# Altium footprint library ICL_design_adds_v1.PcbLib: 7 footprints
Each footprint in its own frame and in the unit in brackets; x right, y up, seen from the top. Pads: shape width x height; smd on the part's side, far side on the other; paste and mask are expansions set on the pad; w line width, h text height; cw(c..) or ccw(c..) is an arc to the next point about the centre after c.
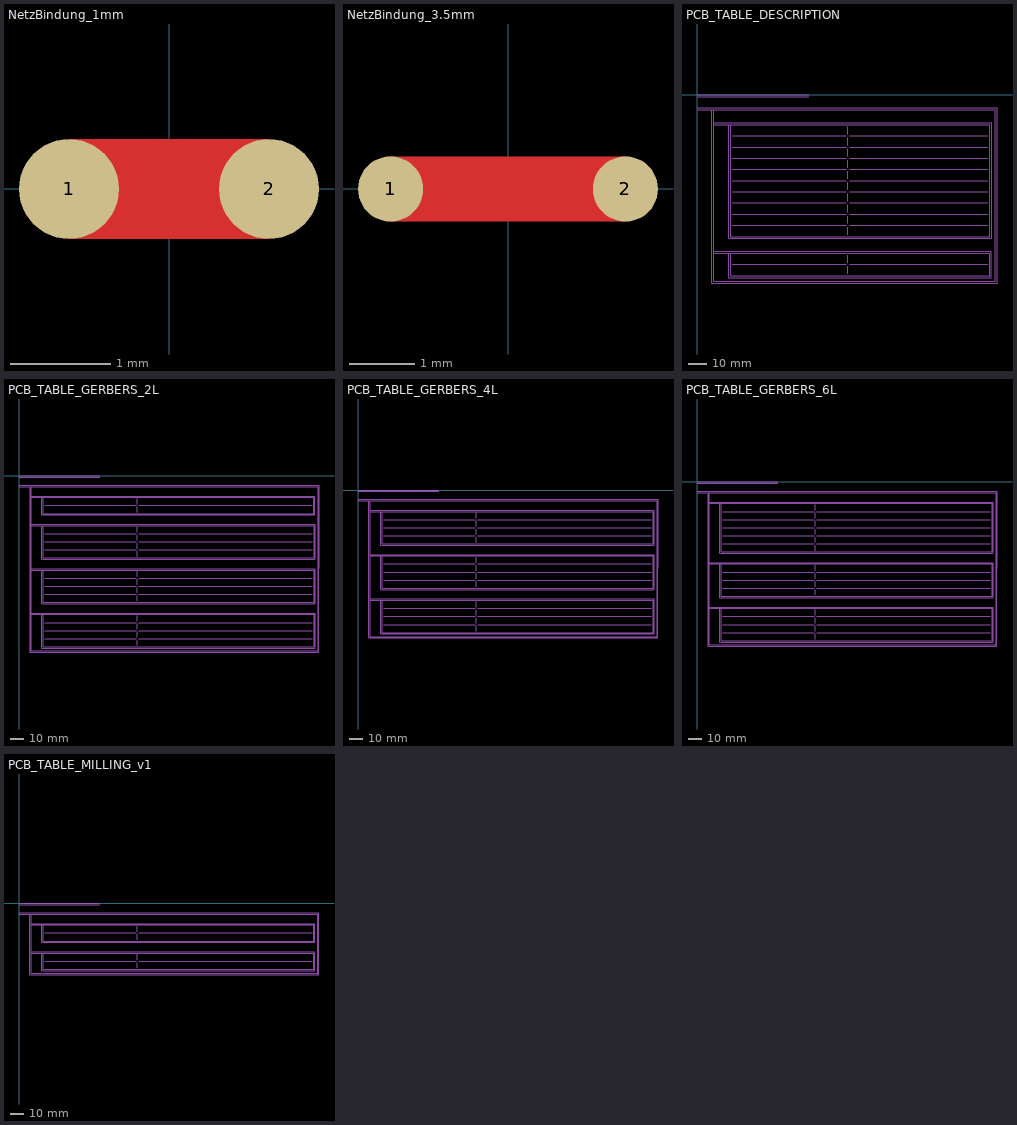
[diagram p0: the footprints below, top view; thin cyan lines are the x and y axes]

## NetzBindung_1mm [mm]
height -1
pads (2):
  round 1 smd paste-0.5 mask-0.5: 1(-1,0) 2(1,0)
Top Layer:
  rectangle: -1,-0.5 1,0.5

## NetzBindung_3.5mm [mm]
height -1
pads (2):
  round 1 smd paste-0.5 mask-0.5: 1(-1.8,0) 2(1.8,0)
Top Layer:
  rectangle: -1.8,-0.5 1.8,0.5

## PCB_TABLE_DESCRIPTION [mm] "General board description"
M30_PCBD:
  lines w0.4: 0,-8 160,-8 160,-97 160,-100 9,-100 9,-8 ; 0,-7 161,-7 161,-101 8,-101 8,-8 ; 0,-1 60,-1 ; 0,0 60,0 ; 9,-85 157,-85 157,-97 18,-97 18,-85 ; 9,-84 158,-84 158,-98 17,-98 17,-85 ; 9,-16 157,-16 157,-76 18,-76 18,-16 ; 9,-15 158,-15 158,-77 17,-77 17,-16 ; 19,-91 80,-91 ; 19,-70 80,-70 ; 19,-64 80,-64 ; 19,-58 80,-58 ; 19,-52 80,-52 ; 19,-46 80,-46 ; 19,-40 80,-40 ; 19,-34 80,-34 ; 19,-28 80,-28 ; 19,-22 80,-22 ; 81,-96 81,-92 ; 81,-90 81,-86 ; 81,-75 81,-71 ; 81,-69 81,-65 ; 81,-63 81,-59 ; 81,-57 81,-53 ; 81,-51 81,-47 ; 81,-45 81,-41 ; 81,-39 81,-35 ; 81,-33 81,-29 ; 81,-27 81,-23 ; 81,-21 81,-17 ; 82,-91 156,-91 ; 82,-70 156,-70 ; 82,-64 156,-64 ; 82,-58 156,-58 ; 82,-52 156,-52 ; 82,-46 156,-46 ; 82,-40 156,-40 ; 82,-34 156,-34 ; 82,-28 156,-28 ; 82,-22 156,-22
  text "Board Description:" at 1.6,-5.4 h3
  text "'.pcbSeparationMethod'" at 82.6,-74.4 h3
  text "Separation Method:" at 19.6,-74.4 h3
  text "'.pcbBottomSoldermask'" at 82.6,-68.4 h3
  text "'.pcbTopSoldermask'" at 82.6,-62.4 h3
  text "'.pcbBottomDescription'" at 82.6,-56.4 h3
  text "'.pcbTopDescription'" at 82.6,-50.4 h3
  text "'.pcbLayers'" at 82.6,-44.4 h3
  text "'.pcbCopperThickness'" at 82.6,-38.4 h3
  text "'.pcbThickness'" at 82.6,-32.4 h3
  text "'.pcbPrepregMaterial'" at 82.6,-26.4 h3
  text "'.pcbCoreMaterial'" at 82.6,-20.4 h3
  text "Bottom Soldermask" at 19.6,-68.4 h3
  text "Top Soldermask" at 19.6,-62.4 h3
  text "Bottom Description:" at 19.6,-56.4 h3
  text "Top Description:" at 19.6,-50.4 h3
  text "Copper Thickness:" at 19.6,-38.4 h3
  text "Pre-preg material:" at 19.6,-26.4 h3
  text "Board Thickness:" at 19.6,-32.4 h3
  text "Layers Number:" at 19.6,-44.4 h3
  text "General:" at 11.6,-13.4 h3
  text "PCB Core material:" at 19.6,-20.4 h3
  text "Dimension:" at 11.6,-82.4 h3
  text "Single Board Size:" at 19.6,-89.4 h3
  text "Panel Size:" at 19.6,-95.4 h3
  text "'.pcbSingleBoardSize'" at 82.6,-89.4 h3
  text "'.pcbPanelSize'" at 82.6,-95.4 h3

## PCB_TABLE_GERBERS_2L [mm] "Gerber file description 2 layer"
M30_PCBD:
  lines w0.4: 0,-8 222,-8 222,-130 9,-130 9,-8 ; 0,-7 223,-7 223,-131 8,-131 8,-8 ; 0,-1 60,-1 ; 0,0 60,0 ; 9,-103 219,-103 219,-127 18,-127 18,-103 ; 9,-102 220,-102 220,-128 17,-128 17,-103 ; 9,-70 219,-70 219,-94 18,-94 18,-70 ; 9,-69 220,-69 220,-95 17,-95 17,-70 ; 9,-37 219,-37 219,-61 18,-61 18,-37 ; 9,-36 220,-36 220,-62 17,-62 17,-37 ; 9,-16 219,-16 219,-28 18,-28 18,-16 ; 9,-15 220,-15 220,-29 17,-29 17,-16 ; 19,-121 87,-121 ; 19,-115 87,-115 ; 19,-109 87,-109 ; 19,-88 87,-88 ; 19,-82 87,-82 ; 19,-76 87,-76 ; 19,-55 87,-55 ; 19,-49 87,-49 ; 19,-43 87,-43 ; 19,-22 87,-22 ; 88,-126 88,-122 ; 88,-120 88,-116 ; 88,-114 88,-110 ; 88,-108 88,-104 ; 88,-93 88,-89 ; 88,-87 88,-83 ; 88,-81 88,-77 ; 88,-75 88,-71 ; 88,-60 88,-56 ; 88,-54 88,-50 ; 88,-48 88,-44 ; 88,-42 88,-38 ; 88,-27 88,-23 ; 88,-21 88,-17 ; 89,-121 218,-121 ; 89,-115 218,-115 ; 89,-109 218,-109 ; 89,-88 218,-88 ; 89,-82 218,-82 ; 89,-76 218,-76 ; 89,-55 218,-55 ; 89,-49 218,-49 ; 89,-43 218,-43 ; 89,-22 218,-22
  text "Top Layer:" at 19.6,-20.4 h3
  text "Gerbers Description:" at 1.6,-5.4 h3
  text "Copper Layers:" at 11.6,-13.4 h3
  text "Bottom layer:" at 19.6,-26.4 h3
  text ".\'.pcbGerberFolder'\'.pcbGerberFileName'.'.pcbGerberBottom'" at 89.6,-26.4 h3
  text ".\'.pcbGerberFolder'\'.pcbGerberFileName'.'.pcbGerberTop'" at 89.6,-20.4 h3
  text "Single Board Outline:" at 19.6,-74.4 h3
  text "Panel Outline:" at 19.6,-80.4 h3
  text "MIlling Layer 1:" at 19.6,-86.4 h3
  text "Milling Layer 2:" at 19.6,-92.4 h3
  text "Mechanical Layers:" at 11.6,-67.4 h3
  text ".\'.pcbGerberFolder'\'.pcbGerberFileName'.'.pcbGerberSingleBoardOutline'" at 89.6,-74.4 h3
  text ".\'.pcbGerberFolder'\'.pcbGerberFileName'.'.pcbGerberPanelOutline'" at 89.6,-80.4 h3
  text ".\'.pcbGerberFolder'\'.pcbGerberFileName'.'.pcbGerberMilling1'" at 89.6,-86.4 h3
  text ".\'.pcbGerberFolder'\'.pcbGerberFileName'.'.pcbGerberMilling2'" at 89.6,-92.4 h3
  text "Fab layer:" at 11.6,-34.4 h3
  text "Bottom Description:" at 19.6,-59.4 h3
  text "Bottom Soldermask:" at 19.6,-53.4 h3
  text "Top Soldermask:" at 19.6,-47.4 h3
  text "Top Description:" at 19.6,-41.4 h3
  text ".\'.pcbGerberFolder'\'.pcbGerberFileName'.'.pcbGerberTopSolder'" at 89.6,-47.4 h3
  text ".\'.pcbGerberFolder'\'.pcbGerberFileName'.'.pcbGerberTopOverlay'" at 89.6,-41.4 h3
  text ".\'.pcbGerberFolder'\'.pcbGerberFileName'.'.pcbGerberBottomSolder'" at 89.6,-53.4 h3
  text ".\'.pcbGerberFolder'\'.pcbGerberFileName'.'.pcbGerberBottomOverlay'" at 89.6,-59.4 h3
  text "NCDrill:" at 11.6,-101.4 h3
  text "Non Plated Slot Holes:" at 19.6,-125.4 h3
  text "Plated Slot Holes:" at 19.6,-119.4 h3
  text "Non Plated Round Holes:" at 19.6,-113.4 h3
  text "Plated Round Holes:" at 19.6,-107.4 h3
  text ".\'.pcbNCDrillFolder'.'.pcbNCDrillPlatedRoundHoles'.TXT" at 89.6,-107.4 h3
  text ".\'.pcbNCDrillFolder'.'.pcbNCDrillNonPlatedRoundHoles'.TXT" at 89.6,-113.4 h3
  text ".\'.pcbNCDrillFolder'.'.pcbNCDrillPlatedSlotHoles'.TXT" at 89.6,-119.4 h3
  text ".\'.pcbNCDrillFolder'.'.pcbNCDrillNonPlatedSlotHoles'.TXT" at 89.6,-125.4 h3

## PCB_TABLE_GERBERS_4L [mm] "Gerber file description 4 layer"
M30_PCBD:
  lines w0.4: 0,-8 222,-8 222,-109 9,-109 9,-8 ; 0,-7 223,-7 223,-110 8,-110 8,-8 ; 0,-1 60,-1 ; 0,0 60,0 ; 9,-82 219,-82 219,-106 18,-106 18,-82 ; 9,-81 220,-81 220,-107 17,-107 17,-82 ; 9,-49 219,-49 219,-73 18,-73 18,-49 ; 9,-48 220,-48 220,-74 17,-74 17,-49 ; 9,-16 219,-16 219,-40 18,-40 18,-16 ; 9,-15 220,-15 220,-41 17,-41 17,-16 ; 19,-100 87,-100 ; 19,-94 87,-94 ; 19,-88 87,-88 ; 19,-67 87,-67 ; 19,-61 87,-61 ; 19,-55 87,-55 ; 19,-34 87,-34 ; 19,-28 87,-28 ; 19,-22 87,-22 ; 88,-105 88,-101 ; 88,-99 88,-95 ; 88,-93 88,-89 ; 88,-87 88,-83 ; 88,-72 88,-68 ; 88,-66 88,-62 ; 88,-60 88,-56 ; 88,-54 88,-50 ; 88,-39 88,-35 ; 88,-33 88,-29 ; 88,-27 88,-23 ; 88,-21 88,-17 ; 89,-100 218,-100 ; 89,-94 218,-94 ; 89,-88 218,-88 ; 89,-67 218,-67 ; 89,-61 218,-61 ; 89,-55 218,-55 ; 89,-34 218,-34 ; 89,-28 218,-28 ; 89,-22 218,-22
  text "Top Layer:" at 19.6,-20.4 h3
  text "Gerbers Description:" at 2.6,-5.4 h3
  text "Mid 1 Layer:" at 19.6,-26.4 h3
  text "Copper Layers:" at 11.6,-13.4 h3
  text "Mid 2 Layer:" at 19.6,-32.4 h3
  text "Bottom layer:" at 19.6,-38.4 h3
  text ".\'.pcbGerberFolder'\'.pcbGerberFileName'.'.pcbGerberBottom'" at 89.6,-38.4 h3
  text ".\'.pcbGerberFolder'\'.pcbGerberFileName'.'.pcbGerberMid2'" at 89.6,-32.4 h3
  text ".\'.pcbGerberFolder'\'.pcbGerberFileName'.'.pcbGerberMid1'" at 89.6,-26.4 h3
  text ".\'.pcbGerberFolder'\'.pcbGerberFileName'.'.pcbGerberTop'" at 89.6,-20.4 h3
  text "NCDrill:" at 11.6,-47.4 h3
  text "Non Plated Slot Holes:" at 19.6,-71.4 h3
  text "Plated Slot Holes:" at 19.6,-65.4 h3
  text "Non Plated Round Holes:" at 19.6,-59.4 h3
  text "Plated Round Holes:" at 19.6,-53.4 h3
  text "Single Board Outline:" at 19.6,-86.4 h3
  text "Panel Outline:" at 19.6,-92.4 h3
  text "MIlling Layer 1:" at 19.6,-98.4 h3
  text "Milling Layer 2:" at 19.6,-104.4 h3
  text "Mechanical Layers:" at 11.6,-79.4 h3
  text ".\'.pcbGerberFolder'\'.pcbGerberFileName'.'.pcbGerberSingleBoardOutline'" at 89.6,-86.4 h3
  text ".\'.pcbGerberFolder'\'.pcbGerberFileName'.'.pcbGerberPanelOutline'" at 89.6,-92.4 h3
  text ".\'.pcbGerberFolder'\'.pcbGerberFileName'.'.pcbGerberMilling1'" at 89.6,-98.4 h3
  text ".\'.pcbGerberFolder'\'.pcbGerberFileName'.'.pcbGerberMilling2'" at 89.6,-104.4 h3
  text ".\'.pcbNCDrillFolder'.'.pcbNCDrillPlatedRoundHoles'.TXT" at 89.6,-53.4 h3
  text ".\'.pcbNCDrillFolder'.'.pcbNCDrillNonPlatedRoundHoles'.TXT" at 89.6,-59.4 h3
  text ".\'.pcbNCDrillFolder'.'.pcbNCDrillPlatedSlotHoles'.TXT" at 89.6,-65.4 h3
  text ".\'.pcbNCDrillFolder'.'.pcbNCDrillNonPlatedSlotHoles'.TXT" at 89.6,-71.4 h3

## PCB_TABLE_GERBERS_6L [mm] "Gerber file description 6 layer"
M30_PCBD:
  lines w0.4: 0,-8 222,-8 222,-121 9,-121 9,-8 ; 0,-7 223,-7 223,-122 8,-122 8,-8 ; 0,-1 60,-1 ; 0,0 60,0 ; 9,-94 219,-94 219,-118 18,-118 18,-94 ; 9,-93 220,-93 220,-119 17,-119 17,-94 ; 9,-61 219,-61 219,-85 18,-85 18,-61 ; 9,-60 220,-60 220,-86 17,-86 17,-61 ; 9,-16 219,-16 219,-52 18,-52 18,-16 ; 9,-15 220,-15 220,-53 17,-53 17,-16 ; 19,-112 87,-112 ; 19,-106 87,-106 ; 19,-100 87,-100 ; 19,-79 87,-79 ; 19,-73 87,-73 ; 19,-67 87,-67 ; 19,-46 87,-46 ; 19,-40 87,-40 ; 19,-34 87,-34 ; 19,-28 87,-28 ; 19,-22 87,-22 ; 88,-117 88,-113 ; 88,-111 88,-107 ; 88,-105 88,-101 ; 88,-99 88,-95 ; 88,-84 88,-80 ; 88,-78 88,-74 ; 88,-72 88,-68 ; 88,-66 88,-62 ; 88,-51 88,-47 ; 88,-45 88,-41 ; 88,-39 88,-35 ; 88,-33 88,-29 ; 88,-27 88,-23 ; 88,-21 88,-17 ; 89,-112 218,-112 ; 89,-106 218,-106 ; 89,-100 218,-100 ; 89,-79 218,-79 ; 89,-73 218,-73 ; 89,-67 218,-67 ; 89,-46 218,-46 ; 89,-40 218,-40 ; 89,-34 218,-34 ; 89,-28 218,-28 ; 89,-22 218,-22
  text "Top Layer:" at 19.6,-20.4 h3
  text "Gerbers Description:" at 1.6,-5.4 h3
  text "Mid 1 Layer:" at 19.6,-26.4 h3
  text "Copper Layers:" at 11.6,-13.4 h3
  text "Mid 2 Layer:" at 19.6,-32.4 h3
  text "Mid 3 Layer:" at 19.6,-38.4 h3
  text "Mid 4 Layer:" at 19.6,-44.4 h3
  text "Bottom layer:" at 19.6,-50.4 h3
  text ".\'.pcbGerberFolder'\'.pcbGerberFileName'.'.pcbGerberBottom'" at 89.6,-50.4 h3
  text ".\'.pcbGerberFolder'\'.pcbGerberFileName'.'.pcbGerberMid4'" at 89.6,-44.4 h3
  text ".\'.pcbGerberFolder'\'.pcbGerberFileName'.'.pcbGerberMid3'" at 89.6,-38.4 h3
  text ".\'.pcbGerberFolder'\'.pcbGerberFileName'.'.pcbGerberMid2'" at 89.6,-32.4 h3
  text ".\'.pcbGerberFolder'\'.pcbGerberFileName'.'.pcbGerberMid1'" at 89.6,-26.4 h3
  text ".\'.pcbGerberFolder'\'.pcbGerberFileName'.'.pcbGerberTop'" at 89.6,-20.4 h3
  text "NCDrill:" at 11.6,-59.4 h3
  text "Non Plated Slot Holes:" at 19.6,-83.4 h3
  text "Plated Slot Holes:" at 19.6,-77.4 h3
  text "Non Plated Round Holes:" at 19.6,-71.4 h3
  text "Plated Round Holes:" at 19.6,-65.4 h3
  text "Single Board Outline:" at 19.6,-98.4 h3
  text "Panel Outline:" at 19.6,-104.4 h3
  text "MIlling Layer 1:" at 19.6,-110.4 h3
  text "Milling Layer 2:" at 19.6,-116.4 h3
  text "Mechanical Layers:" at 11.6,-91.4 h3
  text ".\'.pcbGerberFolder'\'.pcbGerberFileName'.'.pcbGerberSingleBoardOutline'" at 89.6,-98.4 h3
  text ".\'.pcbGerberFolder'\'.pcbGerberFileName'.'.pcbGerberPanelOutline'" at 89.6,-104.4 h3
  text ".\'.pcbGerberFolder'\'.pcbGerberFileName'.'.pcbGerberMilling1'" at 89.6,-110.4 h3
  text ".\'.pcbGerberFolder'\'.pcbGerberFileName'.'.pcbGerberMilling2'" at 89.6,-116.4 h3
  text ".\'.pcbNCDrillFolder'.'.pcbNCDrillPlatedRoundHoles'.TXT" at 89.6,-65.4 h3
  text ".\'.pcbNCDrillFolder'.'.pcbNCDrillNonPlatedRoundHoles'.TXT" at 89.6,-71.4 h3
  text ".\'.pcbNCDrillFolder'.'.pcbNCDrillPlatedSlotHoles'.TXT" at 89.6,-77.4 h3
  text ".\'.pcbNCDrillFolder'.'.pcbNCDrillNonPlatedSlotHoles'.TXT" at 89.6,-83.4 h3

## PCB_TABLE_MILLING_v1 [mm] "Milling Description"
M30_PCBD:
  lines w0.4: 0,-7 223,-7 223,-53 8,-53 8,-8 ; 0,0 60,0 ; 9,-37 219,-37 219,-49 18,-49 18,-37 ; 9,-36 220,-36 220,-50 17,-50 17,-37 ; 9,-16 219,-16 219,-28 18,-28 18,-16 ; 9,-8 9,-52 222,-52 222,-8 0,-8 ; 17,-16 17,-29 220,-29 220,-15 9,-15 ; 19,-43 87,-43 ; 19,-22 87,-22 ; 60,-1 0,-1 ; 88,-48 88,-44 ; 88,-42 88,-38 ; 88,-27 88,-23 ; 88,-21 88,-17 ; 89,-43 218,-43 ; 89,-22 218,-22 ; 0,-8 0,-8 ; 0,-1 0,-1 ; 9,-15 9,-15 ; 60,0 60,0
  text "'.pcbCutter2'" at 89.6,-47.4 h3
  text "'.pcbCutter1'" at 89.6,-40.4 h3
  text "Milling Layer 2:" at 19.6,-47.4 h3
  text "MIlling Layer 1:" at 19.6,-41.4 h3
  text "Cutters:" at 11.6,-34.4 h3
  text "MIlling Layer 1:" at 19.6,-20.4 h3
  text "Milling Layer 2:" at 19.6,-26.4 h3
  text "'.pcbMilling1Description'" at 89.6,-20.4 h3
  text "'.pcbMilling2Description'" at 89.6,-26.4 h3
  text "Path Layer:" at 11.6,-13.4 h3
  text "Milling:" at 2.6,-5.4 h3